# Altium schematic symbol library RES_2.2k_0.5W_0805.SchLib: 1 symbol
Pins are listed as number, name and electrical type; pins without a type are passive.

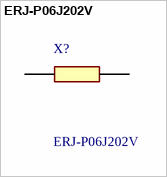
[diagram p0: symbol ERJ-P06J202V]

## ERJ-P06J202V
designator X?
Thick Film Resistors - SMD 0805 2Kohms 0.5W 5% AEC-Q200; Manufacturer_Name: Panasonic; Geometry.Height: 0.7mm; Manufacturer_Part_Number: ERJ-P06J202V; Mouser Part Number: 667-ERJ-P06J202V; Mouser Price/Stock: https://www.mouser.co.uk/ProductDetail/Panasonic/ERJ-P06J202V/?qs=Zyl8A9hlmJqAy%252BsXwxGx%252BA%3D%3D; Arrow Part Number: ERJ-P06J202V; Arrow Price/Stock: https://www.arrow.com/en/products/erj-p06j202v/panasonic; Datasheet Link: http://industrial.panasonic.com/cdbs/www-data/pdf/RDA0000/AOA0000C102.pdf
footprint ERJP06D1000V
pins: 1, 2